# EAGLE library part MODULE_DAUGHTER (library mbed-HDK-misc-Board)
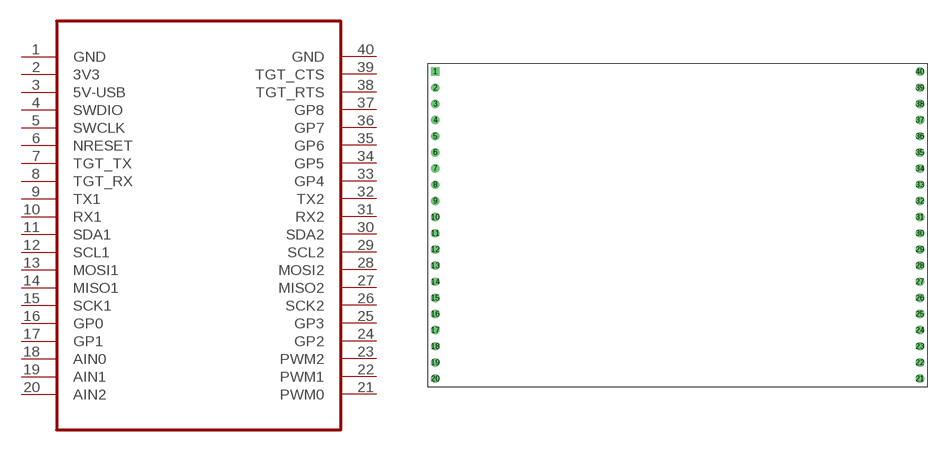
[diagram p6: symbol with the pads of MODULE_DAUGHTER; footprint MODULE_DAUGHTER]

Designator prefix -

## MODULE_DAUGHTER  [MODULE_DAUGHTER]
1  GND
2  3V3
3  5V-USB
4  SWDIO
5  SWCLK
6  NRESET
7  TGT_TX
8  TGT_RX
9  TX1
10  RX1
11  SDA1
12  SCL1
13  MOSI1
14  MISO1
15  SCK1
16  GP0
17  GP1
18  AIN0
19  AIN1
20  AIN2
21  PWM0
22  PWM1
23  PWM2
24  GP2
25  GP3
26  SCK2
27  MISO2
28  MOSI2
29  SCL2
30  SDA2
31  RX2
32  TX2
33  GP4
34  GP5
35  GP6
36  GP7
37  GP8
38  TGT_RTS
39  TGT_CTS
40  GND

## Footprint MODULE_DAUGHTER (pad centres in mm)
drill 0.8 square: 1 0,0
drill 0.8: 2 0,-2.54; 3 0,-5.08; 4 0,-7.62; 5 0,-10.16; 6 0,-12.7; 7 0,-15.24; 8 0,-17.78; 9 0,-20.32; 10 0,-22.86; 11 0,-25.4; 12 0,-27.94; 13 0,-30.48; 14 0,-33.02; 15 0,-35.56; 16 0,-38.1; 17 0,-40.64; 18 0,-43.18; 19 0,-45.72; 20 0,-48.26; 21 76.2,-48.26; 22 76.2,-45.72; 23 76.2,-43.18; 24 76.2,-40.64; 25 76.2,-38.1; 26 76.2,-35.56; 27 76.2,-33.02; 28 76.2,-30.48; 29 76.2,-27.94; 30 76.2,-25.4; 31 76.2,-22.86; 32 76.2,-20.32; 33 76.2,-17.78; 34 76.2,-15.24; 35 76.2,-12.7; 36 76.2,-10.16; 37 76.2,-7.62; 38 76.2,-5.08; 39 76.2,-2.54; 40 76.2,0